# EAGLE library part 400AWMDP1R1M2 (library RoboJackets-Switches)
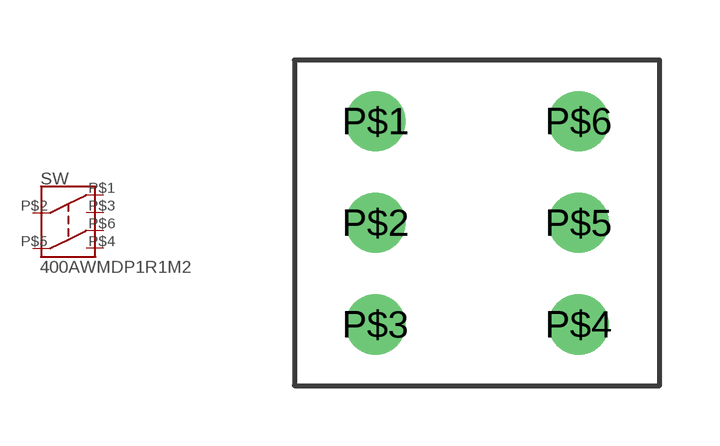
[diagram p2: symbol with the pads of 400AWMDP1R1M2; footprint 400AWMDP1R1M2]

Designator prefix SW

## 400AWMDP1R1M2 (DKPN: 400AWMDP1R1M2QE-ND)  [400AWMDP1R1M2]
P$1  NC1  pas
P$2  C1  pas
P$3  NO1  pas
P$4  NO2  pas
P$5  C2  pas
P$6  NC2  pas

## Footprint 400AWMDP1R1M2 (pad centres in mm)
drill 1: P$1 -2.54,2.54; P$2 -2.54,0; P$3 -2.54,-2.54; P$4 2.54,-2.54; P$5 2.54,0; P$6 2.54,2.54